# Altium footprint library TE_828801-3.PcbLib: 1 footprints
Each footprint in its own frame and in the unit in brackets; x right, y up, seen from the top. Pads: shape width x height; smd on the part's side, far side on the other; paste and mask are expansions set on the pad; w line width, h text height; cw(c..) or ccw(c..) is an arc to the next point about the centre after c.
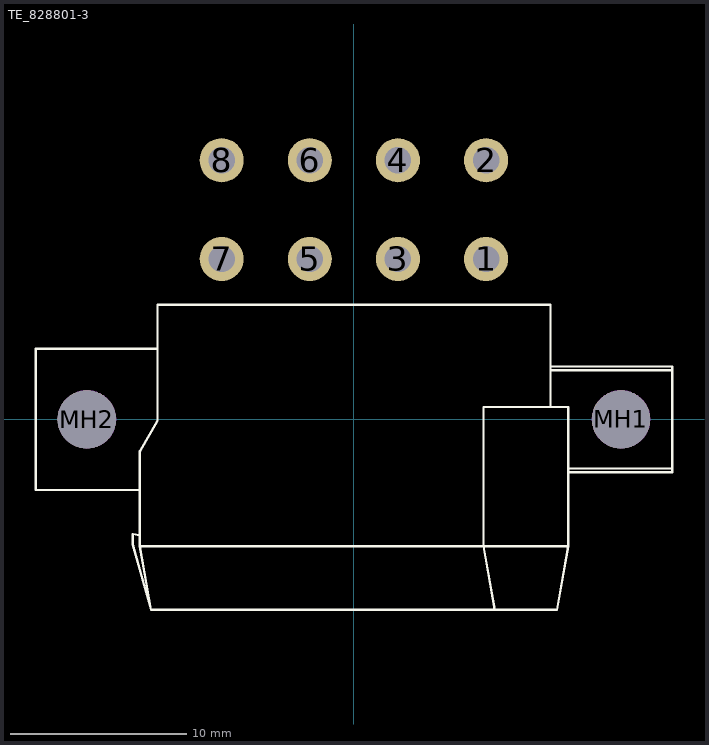
[diagram p0: the footprint, top view; thin cyan lines are the x and y axes]

## TE_828801-3 [mm] "8-pos. male conn. - left"
height 19
pads (10):
  round 2.5 hole 1.5: 1(7.5,9.1) 2(7.5,14.7) 3(2.5,9.1) 4(2.5,14.7) 5(-2.5,9.1) 6(-2.5,14.7) 7(-7.5,9.1) 8(-7.5,14.7)
  round 3.3 hole 3.3: MH1(15.15,0) MH2(-15.15,0)
Top Overlay:
  lines w0.127: -12.143,-6.569 -12.543,-6.498 -12.543,-7.098 -11.508,-10.798 ; -12.143,-3.998 -18.043,-3.998 -18.043,4.002 -11.143,4.002 ; 7.992,-10.798 7.357,-7.198 7.357,0.702 12.157,0.702 12.157,-7.198 ; 11.157,0.702 11.157,6.502 -11.143,6.502 -11.143,-0.066 -12.143,-1.798 -12.143,-7.198 ; 11.157,2.783 18.057,2.783 ; 11.157,3.002 18.057,3.002 18.057,-2.998 12.157,-2.998 ; 12.157,-2.78 18.057,-2.78 ; -12.143,-7.198 12.157,-7.198 ; -12.143,-7.198 -11.508,-10.798 ; -11.508,-10.798 11.523,-10.798 12.157,-7.198
Mechanical 12:
  circle w0.127: c15.157,0.002 r1.6
  circle w0.127: c-15.143,0.002 r1.6
3D body "c-828801-3-e-3d.stp": height 19, standoff -3.5, extent -18.075,-10.787 18.025,15.113